# Altium schematic symbol library 2020-10-26_21-56-20.SchLib: 2 symbols
Pins are listed as number, name and electrical type; pins without a type are passive.

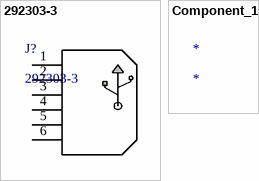
[diagram p0: symbols 292303-3 to Component_1]

## 292303-3
designator J?
USB A R/A RCPT ASSY THRU HOLE, LEAD FREE; Vendor: TE Connectivity; ROWS/CONFIG: 1; PITCH(MM): 2.5; POSITIONS: 4; Built_By: EMA_UL_Team; SourceLibrary: TE_Connectivity-2018-03-16; Copyright: Copyright (C) 2016 Accelerated Designs. All rights reserved; Manufacturer_Part_Number: 292303-3; TE_Part_Number: 292303-3; PRODUCT: Connector; Type: DEV; RefDes: RefDes
footprint CONN4_292303_TEC
pins: 1, 2, 3, 4, 5, 6

## Component_1
designator *